# EAGLE library part 74*8154 (library iStivi - ICs)
16-bit binary counter Dual 16-bit binary counter with 3-state output register
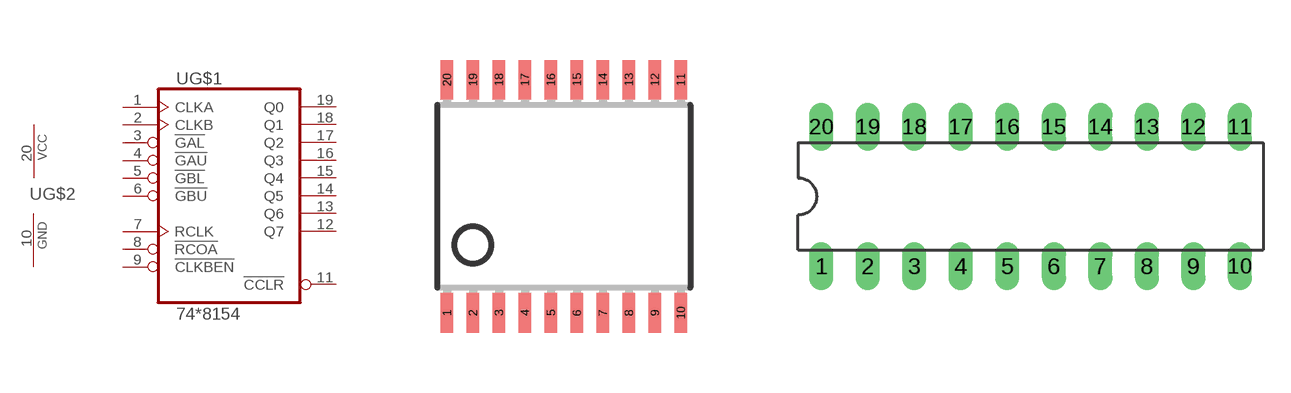
[diagram p7: symbol with the pads of TSSOP20; footprints TSSOP20, DIL20]

Designator prefix -; gates G$1=748154 G$2=PWRN

## 748154D  [TSSOP20]
1  G$1:CLKA  in
2  G$1:CLKB  in
3  G$1:!GAL  in
4  G$1:!GAU  in
5  G$1:!GBL  in
6  G$1:!GBU  in
7  G$1:RCLK  in
8  G$1:!RCOA  in
9  G$1:!CLKBEN  in
10  G$2:GND  pwr
11  G$1:!CCLR  out
12  G$1:Q7  hiz
13  G$1:Q6  hiz
14  G$1:Q5  hiz
15  G$1:Q4  hiz
16  G$1:Q3  hiz
17  G$1:Q2  hiz
18  G$1:Q1  hiz
19  G$1:Q0  hiz
20  G$2:VCC  pwr

## 748154DIL20  [DIL20]
Pads as for TSSOP20

## Footprint TSSOP20 (pad centres in mm)
smd 0.305 x 0.991: 1 -2.925,-2.918; 2 -2.275,-2.918; 3 -1.625,-2.918; 4 -0.975,-2.918; 5 -0.325,-2.918; 6 0.325,-2.918; 7 0.975,-2.918; 8 1.625,-2.918; 9 2.275,-2.918; 10 2.925,-2.918; 11 2.925,2.918; 12 2.275,2.918; 13 1.625,2.918; 14 0.975,2.918; 15 0.325,2.918; 16 -0.325,2.918; 17 -0.975,2.918; 18 -1.625,2.918; 19 -2.275,2.918; 20 -2.925,2.918

## Footprint DIL20 (pad centres in mm)
Dual In Line Package
drill 0.8 long: 1 -11.43,-3.81; 2 -8.89,-3.81; 3 -6.35,-3.81; 4 -3.81,-3.81; 5 -1.27,-3.81; 6 1.27,-3.81; 7 3.81,-3.81; 8 6.35,-3.81; 9 8.89,-3.81; 10 11.43,-3.81; 11 11.43,3.81; 12 8.89,3.81; 13 6.35,3.81; 14 3.81,3.81; 15 1.27,3.81; 16 -1.27,3.81; 17 -3.81,3.81; 18 -6.35,3.81; 19 -8.89,3.81; 20 -11.43,3.81